# Altium footprint library 74HC4067.PcbLib: 3 footprints
Each footprint in its own frame and in the unit in brackets; x right, y up, seen from the top. Pads: shape width x height; smd on the part's side, far side on the other; paste and mask are expansions set on the pad; w line width, h text height; cw(c..) or ccw(c..) is an arc to the next point about the centre after c.
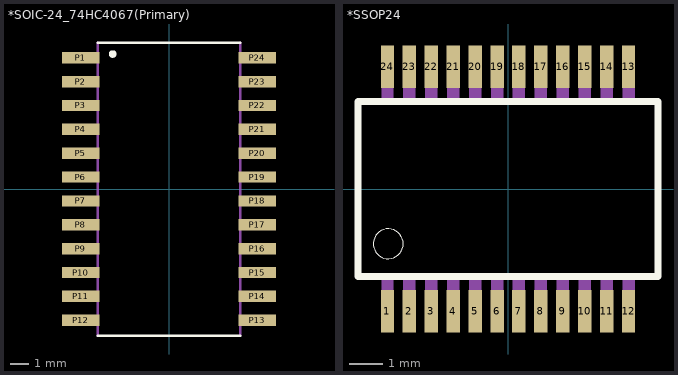
[diagram p0: the footprints below, top view; thin cyan lines are the x and y axes]

## *SOIC-24_74HC4067(Primary) [mm]
pads (24):
  rect 2x0.6 smd: P1(-4.7,7) P2(-4.7,5.73) P3(-4.7,4.46) P4(-4.7,3.19) P5(-4.7,1.92) P6(-4.7,0.65) P7(-4.7,-0.62) P8(-4.7,-1.89) P9(-4.7,-3.16) P10(-4.7,-4.43) P11(-4.7,-5.7) P12(-4.7,-6.97) P13(4.7,-6.97) P14(4.7,-5.7) P15(4.7,-4.43) P16(4.7,-3.16) P17(4.7,-1.89) P18(4.7,-0.62) P19(4.7,0.65) P20(4.7,1.92) P21(4.7,3.19) P22(4.7,4.46) P23(4.7,5.73) P24(4.7,7)
Top Overlay:
  circle w0.2: c-3,7.2 r0.1
  lines w0.127: -3.8,-7.8 3.8,-7.8 ; -3.8,7.8 3.8,7.8
Mechanical 4:
  lines w0.127: -3.8,-7.8 -3.8,7.8 -3.8,-7.8 ; 3.8,-7.8 3.8,7.8 3.8,-7.8

## *SSOP24 [mm]
pads (24):
  rect 0.4x1.25 smd: 1(-3.575,-3.625) 2(-2.925,-3.625) 3(-2.275,-3.625) 4(-1.625,-3.625) 5(-0.975,-3.625) 6(-0.325,-3.625) 7(0.325,-3.625) 8(0.975,-3.625) 9(1.625,-3.625) 10(2.275,-3.625) 11(2.925,-3.625) 12(3.575,-3.625) 13(3.575,3.625) 14(2.925,3.625) 15(2.275,3.625) 16(1.625,3.625) 17(0.975,3.625) 18(0.325,3.625) 19(-0.325,3.625) 20(-0.975,3.625) 21(-1.625,3.625) 22(-2.275,3.625) 23(-2.925,3.625) 24(-3.575,3.625)
Top Overlay:
  circle w0: c-3.55,-1.625 r0.442
  lines w0.203: -4.45,-2.6 -4.45,2.6 4.45,2.6 4.45,-2.6 -4.45,-2.6
Mechanical 4:
  drawing of 48 lines, arcs and shapes, not listed

## PCBComponent_1 [mm]